# Altium schematic symbol library pinhead.SCHLIB: 9 symbols
Pins are listed as number, name and electrical type; pins without a type are passive.

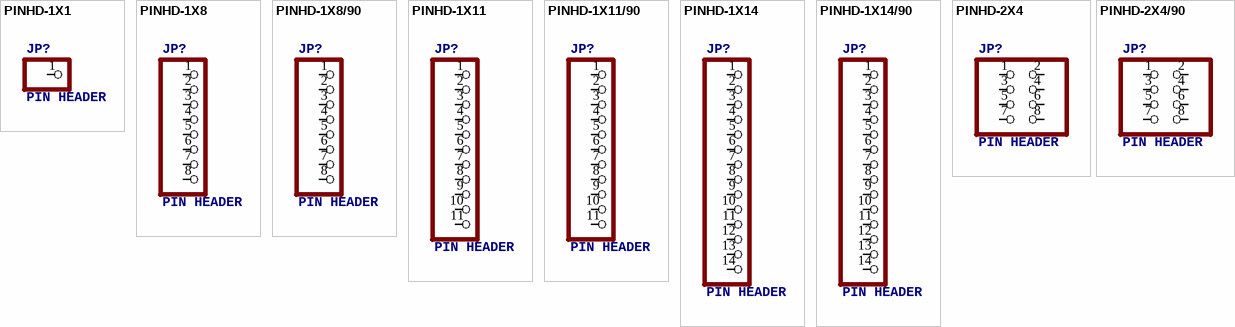
[diagram p0: symbols PINHD-1X1 to PINHD-2X4/90]

## PINHD-1X1
designator JP?, comment PIN HEADER
footprint 1X01
pins: 1

## PINHD-1X8
designator JP?, comment PIN HEADER
footprint 1X08
pins: 1, 2, 3, 4, 5, 6, 7, 8

## PINHD-1X8/90
designator JP?, comment PIN HEADER
footprint 1X08/90
pins: 1, 2, 3, 4, 5, 6, 7, 8

## PINHD-1X11
designator JP?, comment PIN HEADER
footprint 1X11
pins: 1, 2, 3, 4, 5, 6, 7, 8, 9, 10, 11

## PINHD-1X11/90
designator JP?, comment PIN HEADER
footprint 1X11/90
pins: 1, 2, 3, 4, 5, 6, 7, 8, 9, 10, 11

## PINHD-1X14
designator JP?, comment PIN HEADER
footprint 1X14
pins: 1, 2, 3, 4, 5, 6, 7, 8, 9, 10, 11, 12, 13, 14

## PINHD-1X14/90
designator JP?, comment PIN HEADER
footprint 1X14/90
pins: 1, 2, 3, 4, 5, 6, 7, 8, 9, 10, 11, 12, 13, 14

## PINHD-2X4
designator JP?, comment PIN HEADER
footprint 2X04
pins: 1, 2, 3, 4, 5, 6, 7, 8

## PINHD-2X4/90
designator JP?, comment PIN HEADER
footprint 2X04/90
pins: 1, 2, 3, 4, 5, 6, 7, 8